# EAGLE library part 690357100672 (library Board-to-Board (rev18a))
WR-MM Male Connector with Polarization, 6 Pins=>Code : Con_BTB_MM_Male_THT_690357100672 <http://katalog.we-online.de/media/thumbs2/eican/thb_Con_BTB_MM_Male_THT_69035710xx72_pf2.jpg> Details see: http://katalog.we-online.de/en/em/6903_5710_xx_72 Created 2014-06-04, Karrer Zheng 2014 (C) Würth Elektronik
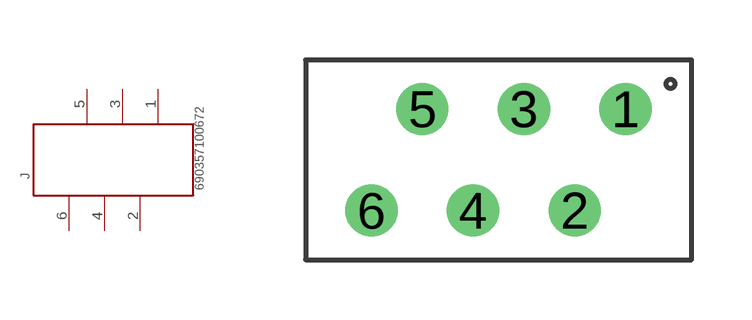
[diagram p305: symbol with the pads of 690357100672; footprint 690357100672]

Designator prefix J

## 690357100672  [690357100672]
1  6  pas
2  5  pas
3  4  pas
4  3  pas
5  2  pas
6  1  pas

## Footprint 690357100672 (pad centres in mm)
WR-MM Male Connector with Polarization, 6 Pins
drill 0.8: 1 3.175,1.27; 2 1.905,-1.27; 3 0.635,1.27; 4 -0.635,-1.27; 5 -1.905,1.27; 6 -3.175,-1.27